# Altium footprint library Connecteur-Alim-Pluggi.PcbLib: 2 footprints
Each footprint in its own frame and in the unit in brackets; x right, y up, seen from the top. Pads: shape width x height; smd on the part's side, far side on the other; paste and mask are expansions set on the pad; w line width, h text height; cw(c..) or ccw(c..) is an arc to the next point about the centre after c.
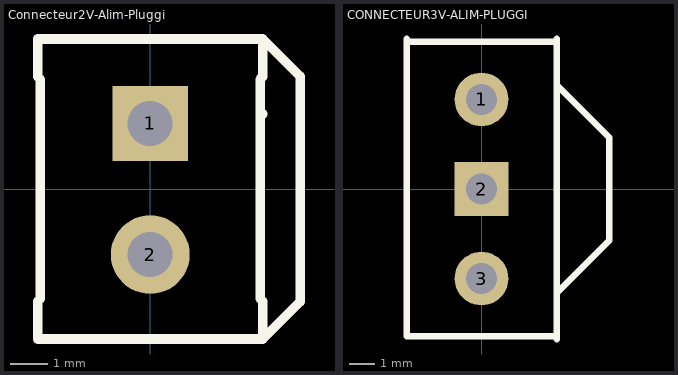
[diagram p0: the footprints below, top view; thin cyan lines are the x and y axes]

## Connecteur2V-Alim-Pluggi [mm]
pads (2):
  rect 2x2 hole 1.2: 1(0,1.75)
  round 2.1 hole 1.2: 2(0,-1.75)
Top Overlay:
  lines w0.254: -3,-3 -3,-4 3,-4 ; -2.93,-2.93 -2.93,2.93 ; -2,-4 2,-4 ; 2,4 -2,4 ; 2.93,-2.93 2.93,2.93 3,3 3,4 ; 2.93,2 3,2 ; 3,-3 3,-4 ; 4,-1 4,1 ; -3,3 -3,3 ; -3,3 -3,4 -2,4 ; -2,4 3,4 ; 3,-4 4,-3 4,3 3,4

## CONNECTEUR3V-ALIM-PLUGGI [mm]
pads (3):
  round 2.1 hole 1.2: 1(0,3.5) 3(0,-3.5)
  rect 2.1x2.1 hole 1.2: 2(0,0)
Top Overlay:
  lines w0.254: -2.93,5.75 2.93,5.75 ; -2.93,5.86 -2.93,-5.75 2.93,-5.75 ; 2.93,-5.86 2.93,5.86 ; 2.93,-5 2.93,-4.07 4,-3 5,-2 5,2 3,4 ; 2.93,2.93 2.93,2.93